# EAGLE library part CRTC6845 (library 8Bit_Parts)
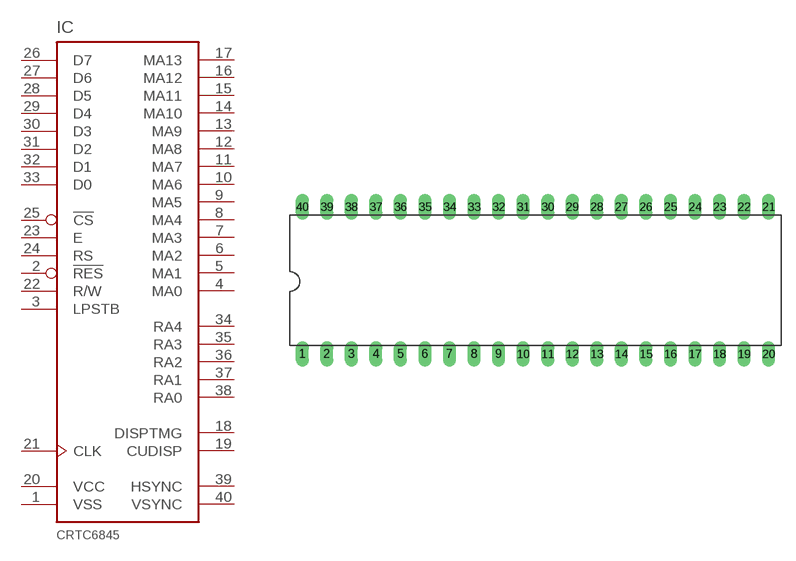
[diagram p4: symbol with the pads of DIL40; footprint DIL40]

Designator prefix IC

## CRTC6845  [DIL40]
1  VSS  pwr
2  !RES  in
3  LPSTB  in
4  MA0  out
5  MA1  out
6  MA2  out
7  MA3  out
8  MA4  out
9  MA5  out
10  MA6  out
11  MA7  out
12  MA8  out
13  MA9  out
14  MA10  out
15  MA11  out
16  MA12  out
17  MA13  out
18  DISPTMG  out
19  CUDISP  out
20  VCC  pwr
21  CLK  in
22  R/W  in
23  E  in
24  RS  in
25  !CS  in
26  D7
27  D6
28  D5
29  D4
30  D3
31  D2
32  D1
33  D0
34  RA4  out
35  RA3  out
36  RA2  out
37  RA1  out
38  RA0  out
39  HSYNC  out
40  VSYNC  out

## Footprint DIL40 (pad centres in mm)
Dual In Line Package
drill 0.813 long: 1 -24.13,-7.62; 2 -21.59,-7.62; 3 -19.05,-7.62; 4 -16.51,-7.62; 5 -13.97,-7.62; 6 -11.43,-7.62; 7 -8.89,-7.62; 8 -6.35,-7.62; 9 -3.81,-7.62; 10 -1.27,-7.62; 11 1.27,-7.62; 12 3.81,-7.62; 13 6.35,-7.62; 14 8.89,-7.62; 15 11.43,-7.62; 16 13.97,-7.62; 17 16.51,-7.62; 18 19.05,-7.62; 19 21.59,-7.62; 20 24.13,-7.62; 21 24.13,7.62; 22 21.59,7.62; 23 19.05,7.62; 24 16.51,7.62; 25 13.97,7.62; 26 11.43,7.62; 27 8.89,7.62; 28 6.35,7.62; 29 3.81,7.62; 30 1.27,7.62; 31 -1.27,7.62; 32 -3.81,7.62; 33 -6.35,7.62; 34 -8.89,7.62; 35 -11.43,7.62; 36 -13.97,7.62; 37 -16.51,7.62; 38 -19.05,7.62; 39 -21.59,7.62; 40 -24.13,7.62